# EAGLE library part M22-2511005 (library SamacSys_Parts)
2.00mm (0.079") Pitch SIL Vertical 2.4mm Throughboard Pin Header, 3.5mm mating pin height, gold, 10 contacts Source: Datasheet <https://cdn.harwin.com/pdfs/M22-251.pdf>
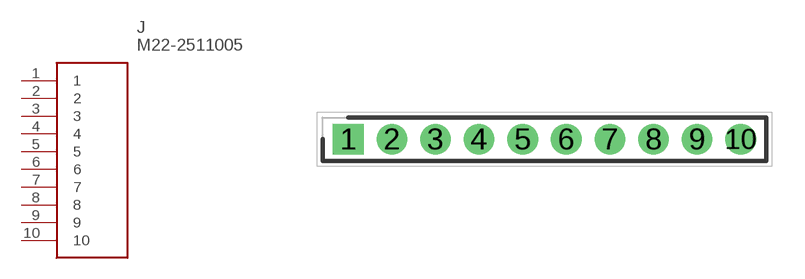
[diagram p92: symbol with the pads of HDRV10W50P0X200_1X10_2000X200X; footprint HDRV10W50P0X200_1X10_2000X200X]

Designator prefix J

## M22-2511005 (DESCRIPTION: 2.00mm (0.079") Pitch SIL Vertical 2.4mm Throughboard Pin Header, 3.5mm mating pin height, gold, 10 contacts; HEIGHT: 5.25mm; MANUFACTURER_NAME: Harwin; MANUFACTURER_PART_NUMBER: M22-2511005; MOUSER_PART_NUMBER: 855-M22-2511005; MOUSER_PRICE-STOCK: https://www.mouser.co.uk/ProductDetail/Harwin/M22-2511005?qs=vF78I%252BjhbY9kxx9dIj4cwQ%3D%3D)  [HDRV10W50P0X200_1X10_2000X200X]
1  1
2  2
3  3
4  4
5  5
6  6
7  7
8  8
9  9
10  10

## Footprint HDRV10W50P0X200_1X10_2000X200X (pad centres in mm)
M22-2511005
drill 0.9 pad 1.35 square: 1 0,0
drill 0.9 pad 1.35: 2 2,0; 3 4,0; 4 6,0; 5 8,0; 6 10,0; 7 12,0; 8 14,0; 9 16,0; 10 18,0